# Altium footprint library TH_Passive.PcbLib: 24 footprints (part 2 of 2)
Each footprint in its own frame and in the unit in brackets; x right, y up, seen from the top. Pads: shape width x height; smd on the part's side, far side on the other; paste and mask are expansions set on the pad; w line width, h text height; cw(c..) or ccw(c..) is an arc to the next point about the centre after c.
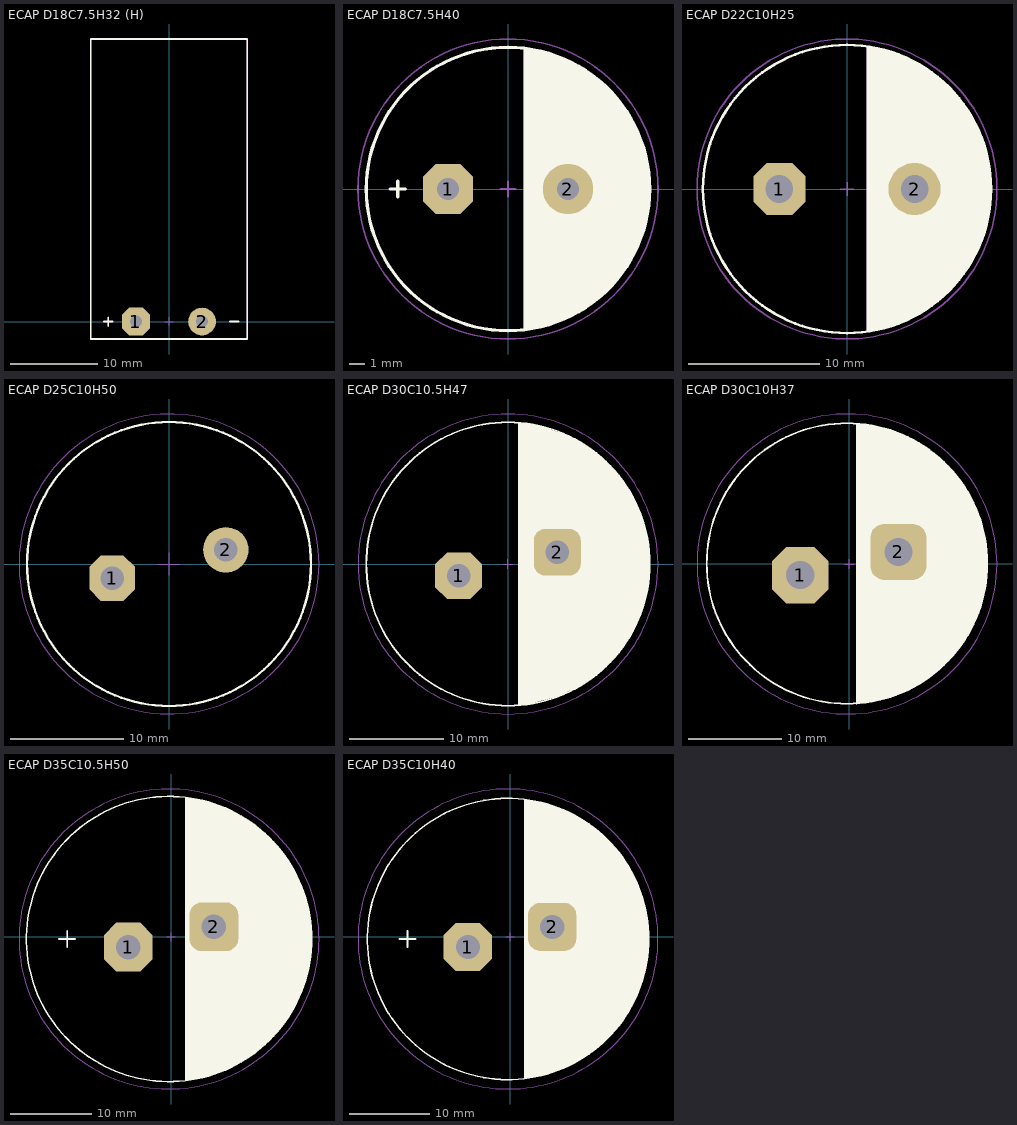
[diagram p1: the footprints below, top view; thin cyan lines are the x and y axes]

## ECAP D18C7.5H32 (H) [mm]
height 40
pads (2):
  oct 3.2x3.2 hole 1.4: 1(-3.81,0)
  round 3.2 hole 1.4: 2(3.81,0)
Top Overlay:
  lines w0.2: -7.5,0 -6.5,0 ; -7,-0.5 -7,0.5 ; 7,0 8,0 ; -9,-2 9,-2 9,32.5 -9,32.5 -9,-2
Top Assembly:
  lines w0.1: -7.5,0 -6.5,0 ; -7,-0.5 -7,0.5 ; -0.5,0 0.5,0 ; 0,-0.5 0,0.5 ; -9,-2 -9,32.5 9,32.5 9,-2 -9,-2
3D body "User Library-CapAluRadial_D180H315P75.STEP": height 18.1, standoff 0.1, extent -9.001,-2 9.001,32.501

## ECAP D18C7.5H40 [mm]
height 40
pads (2):
  oct 3.2x3.2 hole 1.4: 1(-3.81,0)
  round 3.2 hole 1.4: 2(3.81,0)
Top Overlay:
  circle w0.2: c0,0 r9
  region: 1,8.9 1.3,8.9 2.125,8.75 3.575,8.3 4.625,7.725 5.975,6.725 6.675,6.05 7.3,5.25 7.9,4.35 8.425,3.2 8.875,1.575 9,0.475 8.95,-0.85 8.8,-1.9 8.45,-3.15 7.975,-4.175 7.375,-5.125 6.65,-6.05 5.775,-6.9 5,-7.525 3.725,-8.175 2.35,-8.7 1.25,-8.925 1,-8.925
  lines w0.2: -7.5,0 -6.5,0 ; -7,-0.5 -7,0.5
Top Assembly:
  circle w0.1: c0,0 r9.527
  region: 1,8.9 1.3,8.9 2.125,8.75 3.575,8.3 4.625,7.725 5.975,6.725 6.675,6.05 7.3,5.25 7.9,4.35 8.425,3.2 8.875,1.575 9,0.475 8.95,-0.85 8.8,-1.9 8.45,-3.15 7.975,-4.175 7.375,-5.125 6.65,-6.05 5.775,-6.9 5,-7.525 3.725,-8.175 2.35,-8.7 1.25,-8.925 1,-8.925
  lines w0.1: -7.5,0 -6.5,0 ; -7,-0.5 -7,0.5 ; -0.5,0 0.5,0 ; 0,-0.5 0,0.5
3D body "User Library-Cap-EL(18x40-7_5)T.STEP": height 41, standoff -3, extent -9,-8.999 9.002,9

## ECAP D22C10H25 [mm]
height 25
pads (2):
  oct 4x4 hole 2.1: 1(-5.154,0)
  round 4 hole 2.1: 2(5.154,0)
Top Overlay:
  circle w0.2: c0,0 r11
  region: 1.5,-10.9 1.5,10.9 3.275,10.5 4.4,10.075 5.45,9.55 6.475,8.9 7.7,7.875 8.575,6.875 9.425,5.7 10.175,4.25 10.625,2.825 10.9,1.575 10.975,0.35 10.975,-0.825 10.65,-2.75 10.05,-4.425 9.375,-5.725 8.075,-7.525 7.25,-8.25 6.275,-9.05 4.925,-9.875 3.975,-10.275 2.825,-10.625 1.975,-10.825
Top Assembly:
  circle w0.1: c0,0 r11.453
  region: 1.5,-10.9 1.5,10.9 3.275,10.5 4.4,10.075 5.45,9.55 6.475,8.9 7.7,7.875 8.575,6.875 9.425,5.7 10.175,4.25 10.625,2.825 10.9,1.575 10.975,0.35 10.975,-0.825 10.65,-2.75 10.05,-4.425 9.375,-5.725 8.075,-7.525 7.25,-8.25 6.275,-9.05 4.925,-9.875 3.975,-10.275 2.825,-10.625 1.975,-10.825
  lines w0.1: -0.5,0 0.5,0 ; 0,-0.5 0,0.5
3D body "Конденсатор H25хD22хL10.step": height 25.05, standoff -3.75, extent -11,-11 11,11

## ECAP D25C10H50 [mm]
height 37
pads (2):
  oct 4x4 hole 2.1: 1(-5,-1.25)
  round 4 hole 2.1: 2(5,1.25)
Top Overlay:
  circle w0.2: c0,0 r12.5
Top Assembly:
  circle w0.1: c0,0 r13.209
  lines w0.1: -1,0 1,0 ; 0,-1 0,1
3D body "User Library-Cap 25x50.STEP": height 50, standoff 0, extent -12.5,-12.5 12.5,12.5

## ECAP D30C10.5H47 [mm]
height 37
pads (2):
  oct 5x5 hole 2.5: 1(-5.25,-1.25)
  rrect50% 5x5 hole 2.5: 2(5.25,1.25)
Top Overlay:
  circle w0.2: c0,0 r15.1
  region: 1.1,-14.988 1.1,15.105 3.134,14.784 5.675,13.937 7.7,12.962 8.55,12.412 9.675,11.562 10.75,10.562 11.55,9.687 12.15,8.988 13.225,7.312 13.85,6.013 14.325,4.812 14.8,3.062 15.05,1.312 15.1,0.012 15,-1.663 14.75,-3.213 14.35,-4.713 13.85,-5.988 13.1,-7.462 12.35,-8.662 11,-10.288 9.75,-11.488 8.45,-12.462 7.025,-13.313 6.125,-13.738 4.975,-14.188 3.725,-14.538 2.3,-14.9
Top Assembly:
  circle w0.1: c0,0 r15.979
  region: 1.1,-14.988 1.1,15.037 3.425,14.689 5.217,14.158 7.7,12.962 8.55,12.412 9.675,11.562 10.75,10.562 11.55,9.687 12.15,8.988 13.225,7.312 13.85,6.013 14.325,4.812 14.8,3.062 15.05,1.312 15.1,0.012 15,-1.663 14.75,-3.213 14.35,-4.713 13.85,-5.988 13.1,-7.462 12.35,-8.662 11,-10.288 9.75,-11.488 8.45,-12.462 7.025,-13.313 6.125,-13.738 4.975,-14.188 3.725,-14.538 2.3,-14.9
  lines w0.1: -0.5,0 0.5,0 ; 0,-0.5 0,0.5
3D body "Capacitor D30C10H47.STEP": height 47, standoff 0, extent -15,-15 15,15

## ECAP D30C10H37 [mm]
height 37
pads (2):
  oct 6x6 hole 3: 1(-5.25,-1.25)
  rrect50% 6x6 hole 3: 2(5.25,1.25)
Top Overlay:
  circle w0.2: c-0.25,0 r15
  region: 0.75,-15.05 0.75,14.955 3.282,14.556 5.325,13.875 7.35,12.9 8.2,12.35 9.325,11.5 10.4,10.5 11.2,9.625 11.8,8.925 12.875,7.25 13.5,5.95 13.975,4.75 14.45,3 14.7,1.25 14.75,-0.05 14.65,-1.725 14.4,-3.275 14,-4.775 13.5,-6.05 12.75,-7.525 12,-8.725 10.65,-10.35 9.4,-11.55 8.1,-12.525 6.675,-13.375 5.775,-13.8 4.625,-14.25 3.375,-14.6 2.35,-14.8 0.775,-15.025
Top Assembly:
  circle w0.1: c-0.25,-0.05 r16.042
  region: 0.75,-15.05 0.75,14.925 3.45,14.5 5.325,13.875 7.35,12.9 8.2,12.35 9.325,11.5 10.4,10.5 11.2,9.625 11.8,8.925 12.875,7.25 13.5,5.95 13.975,4.75 14.45,3 14.7,1.25 14.75,-0.05 14.65,-1.725 14.4,-3.275 14,-4.775 13.5,-6.05 12.75,-7.525 12,-8.725 10.65,-10.35 9.4,-11.55 8.1,-12.525 6.675,-13.375 5.775,-13.8 4.625,-14.25 3.375,-14.6 2.35,-14.8 0.775,-15.025
  lines w0.1: -0.5,-0.05 0.5,-0.05 ; 0,-0.55 0,0.45
3D body "User Library-Assy_CE_R400_D1200_H1450.STEP": height 36.83, standoff -6.89, extent -17.95,-17.723 17.36,17.586

## ECAP D35C10.5H50 [mm]
height 50
pads (2):
  oct 6x6 hole 3: 1(-5.25,-1.25)
  rrect50% 6x6 hole 3: 2(5.25,1.25)
Top Overlay:
  circle w0.2: c-0.25,-0.25 r17.5
  region: 1.75,17.05 2.275,17.05 3.375,16.825 4.75,16.5 6,16.05 7.375,15.475 8.625,14.8 9.975,13.925 10.95,13.2 12.1,12.1 13.2,10.9 14,9.875 14.45,9.175 15.175,7.95 15.675,6.9 16.125,5.825 16.625,4.275 16.875,3.125 17.125,1.425 17.2,0 17.175,-1.275 17.075,-2.4 16.925,-3.45 16.475,-5.35 16.15,-6.275 15.275,-8.275 14.025,-10.3 13.15,-11.45 11.875,-12.8 10.4,-14.1 8.506,-15.393 6.63,-16.34 5.55,-16.7 3.775,-17.275 2.25,-17.55 1.75,-17.6
  lines w0.2: -13.75,-0.25 -11.75,-0.25 ; -12.75,-1.25 -12.75,0.75
Top Assembly:
  circle w0.1: c-0.25,-0.25 r18.408
  region: 1.75,17.05 2.275,17.05 3.375,16.825 4.75,16.5 6,16.05 7.375,15.475 8.625,14.8 9.975,13.925 10.95,13.2 12.1,12.1 13.2,10.9 14,9.875 14.45,9.175 15.175,7.95 15.675,6.9 16.125,5.825 16.625,4.275 16.875,3.125 17.125,1.425 17.2,0 17.175,-1.275 17.075,-2.4 16.925,-3.45 16.475,-5.35 16.15,-6.275 15.275,-8.275 14.025,-10.3 13.15,-11.45 11.875,-12.8 10.4,-14.1 8.506,-15.393 6.63,-16.34 5.55,-16.7 3.775,-17.275 2.25,-17.55 1.75,-17.6
  lines w0.1: -13.75,-0.25 -11.75,-0.25 ; -12.75,-1.25 -12.75,0.75 ; -0.5,0 0.5,0 ; 0,-0.5 0,0.5
3D body "User Library-el_cap_470uF-400V.STEP": height 46.7, standoff -3.5, extent -21.006,-21.006 20.506,20.506

## ECAP D35C10H40 [mm]
height 50
pads (2):
  oct 6x6 hole 3: 1(-5.25,-1.25)
  rrect50% 6x6 hole 3: 2(5.25,1.25)
Top Overlay:
  circle w0.2: c-0.25,-0.25 r17.5
  region: 1.75,17.05 2.275,17.05 3.375,16.825 4.75,16.5 6,16.05 7.375,15.475 8.625,14.8 9.975,13.925 10.95,13.2 12.1,12.1 13.2,10.9 14,9.875 14.45,9.175 15.175,7.95 15.675,6.9 16.125,5.825 16.625,4.275 16.875,3.125 17.125,1.425 17.2,0 17.175,-1.275 17.075,-2.4 16.925,-3.45 16.475,-5.35 16.15,-6.275 15.275,-8.275 14.025,-10.3 13.15,-11.45 11.875,-12.8 10.4,-14.1 8.506,-15.393 6.63,-16.34 5.55,-16.7 3.775,-17.275 2.25,-17.55 1.75,-17.6
  lines w0.2: -13.75,-0.25 -11.75,-0.25 ; -12.75,-1.25 -12.75,0.75
Top Assembly:
  circle w0.1: c-0.25,-0.25 r18.663
  region: 1.75,17.05 2.275,17.05 3.375,16.825 4.75,16.5 6,16.05 7.375,15.475 8.625,14.8 9.975,13.925 10.95,13.2 12.1,12.1 13.2,10.9 14,9.875 14.45,9.175 15.175,7.95 15.675,6.9 16.125,5.825 16.625,4.275 16.875,3.125 17.125,1.425 17.2,0 17.175,-1.275 17.075,-2.4 16.925,-3.45 16.475,-5.35 16.15,-6.275 15.275,-8.275 14.025,-10.3 13.15,-11.45 11.875,-12.8 10.4,-14.1 8.506,-15.393 6.63,-16.34 5.55,-16.7 3.775,-17.275 2.25,-17.55 1.75,-17.6
  lines w0.1: -13.75,-0.25 -11.75,-0.25 ; -12.75,-1.25 -12.75,0.75 ; -0.5,0 0.5,0 ; 0,-0.5 0,0.5
3D body "Capacitor D35H40.STEP": height 40, standoff 0, extent -18.25,-18.25 17.75,17.75